# Altium integrated library Analog Devices Switches and Multiplexers Multiplexers (Muxes).IntLib: 481 symbols (part 2 of 23)
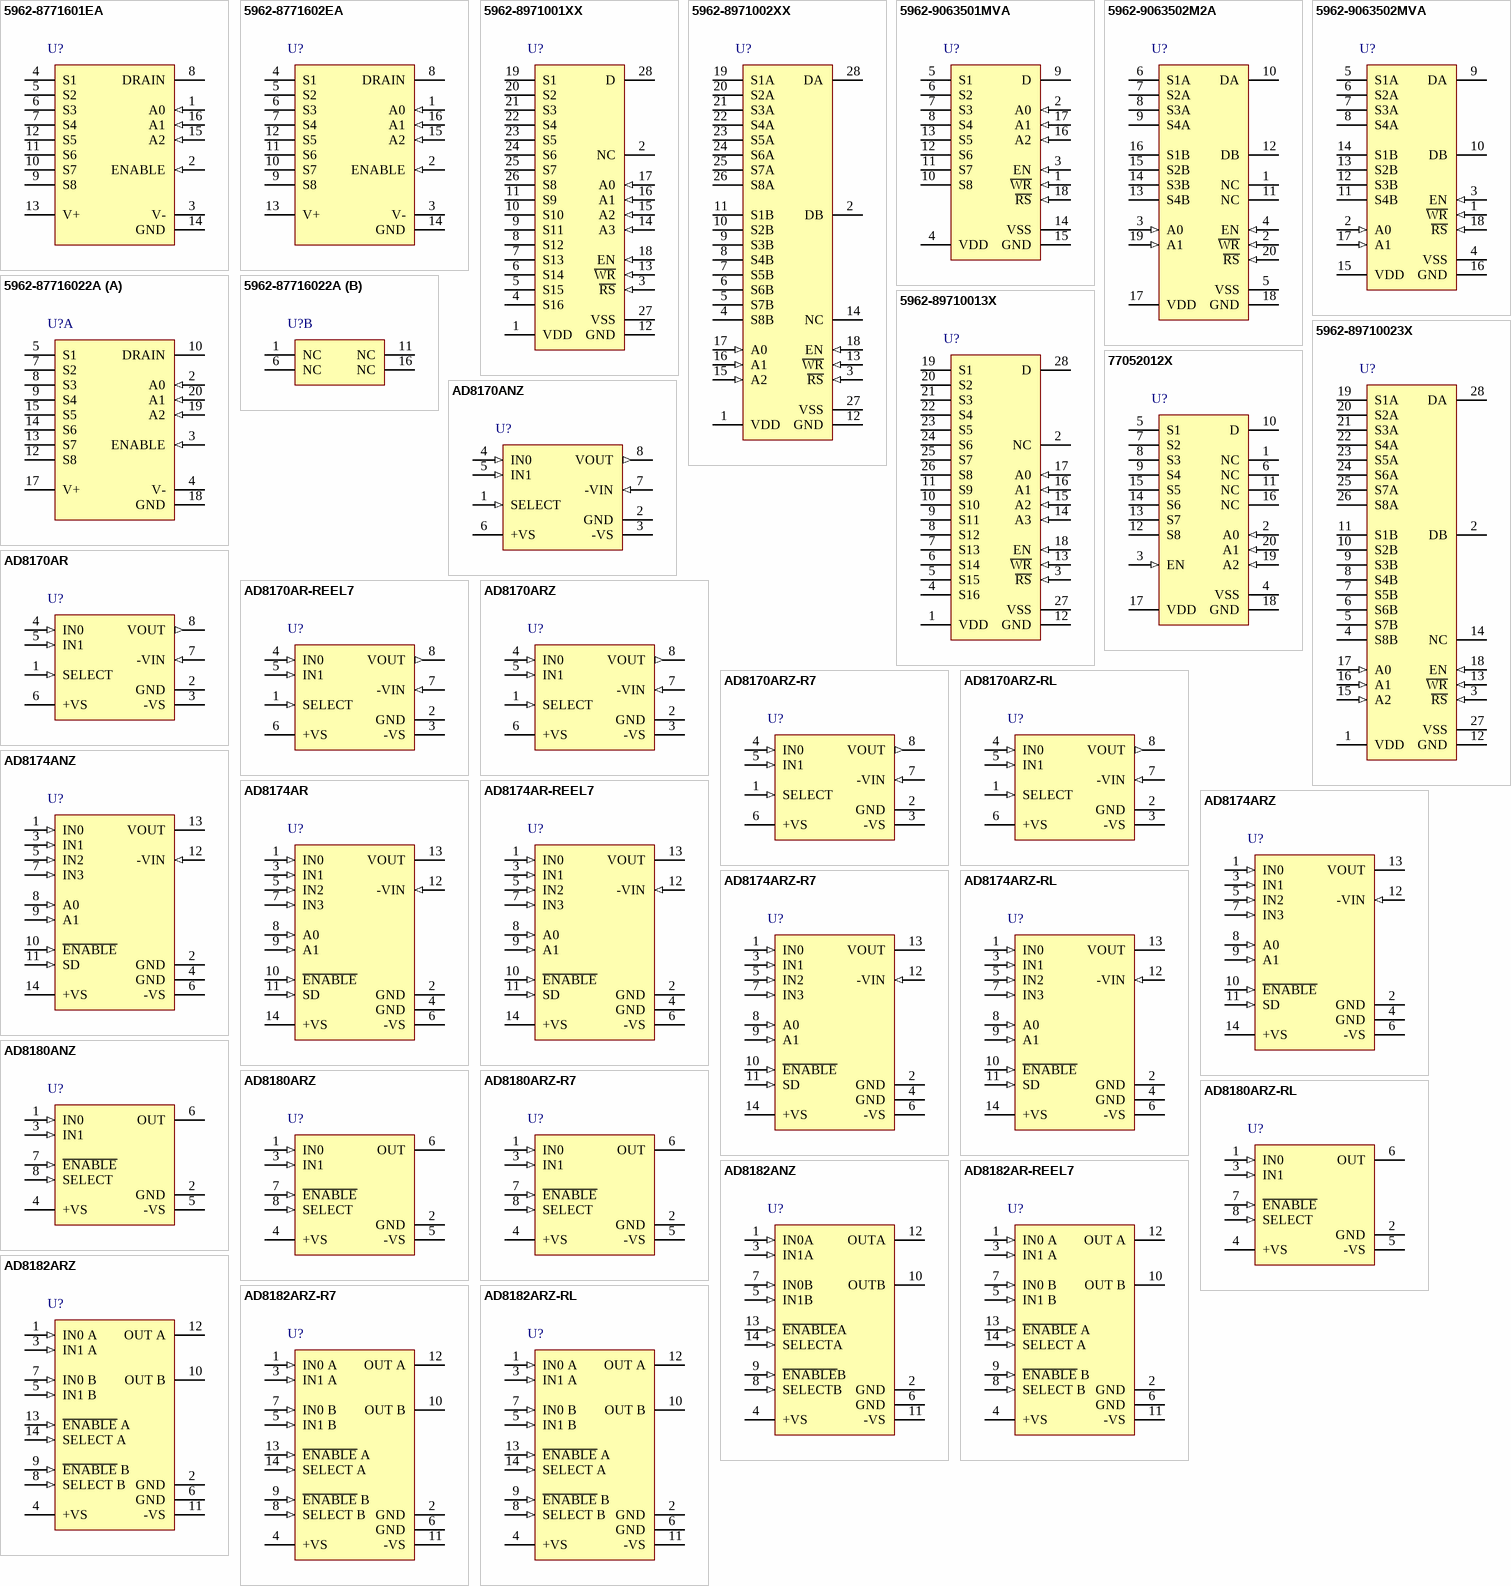
[diagram p18: symbols 5962-8771601EA to AD8182ARZ-RL]

## AD8182ARZ
designator U?
750 MHz, 3.8 mA 10 ns Switching Multiplexers, -40 to 85 degC, 14-pin SOIC (R-14), Tube; Manufacturer: Analog Devices; PartNumber: AD8182ARZ; Bandwidth (Hz): 780M; Max Analog Signal Range: +/-3.3V; Supply V Guar Performance: Dual_(+/-5V); t transition (s): 10n; DatasheetVersion: Rev. B; PackageVersion: 060606-A , 06/2006; PackageReference: R-14; PackageDescription: 14-Pin Standard Small Outline Package, Body 8.65 x 3.9 mm, Pitch 1.27 mm; Supplier 1: Digi-Key; Supplier Part Number 1: AD8182ARZ-ND; Supplier 2: Farnell; Supplier Part Number 2: 2305788; Supplier 3: Newark; Supplier Part Number 3: 84W7469; Supplier 4: Newark; Supplier Part Number 4: 59K6456; Supplier 5: Mouser; Supplier Part Number 5: 584-AD8182ARZ; Packing: Tube; Mounting Technology: Surface Mount; Code_JEDEC: MS-012-AB; ComponentLink1Description: Manufacturer URL; ComponentLink1URL: http://www.analog.com/en/index.html; ComponentLink2Description: Datasheet; ComponentLink2URL: http://www.analog.com/static/imported-files/data_sheets/AD8180_8182.pdf; ComponentLink3Description: Package Specification; ComponentLink3URL: http://www.analog.com/static/imported-files/packages/PKG_PDF/SOIC_Narrow%20(R)/R_14.pdf
footprint ADI-R-14_N (SOIC, 14-Leads, Body 8.65x3.9mm, Pitch 1.27mm, IPC Medium Density)
footprint ADI-R-14_L (SOIC, 14-Leads, Body 8.65x3.9mm, Pitch 1.27mm, IPC High Density)
footprint ADI-R-14_M (SOIC, 14-Leads, Body 8.65x3.9mm, Pitch 1.27mm, IPC Low Density)
pins: 1 IN0 A (in), 2 GND (power), 3 IN1 A (in), 4 +VS (power), 5 IN1 B (in), 6 GND (power), 7 IN0 B (in), 8 SELECT B (in), 9 ~{ENABLE} B (in), 10 OUT B (hiz), 11 -VS (power), 12 OUT A (hiz), 13 ~{ENABLE} A (in), 14 SELECT A (in)

## AD8182ARZ-R7
designator U?
750 MHz, 3.8 mA 10 ns Switching Multiplexers, -40 to 85 degC, 14-pin SOIC (R-14), Reel; Manufacturer: Analog Devices; PartNumber: AD8182ARZ-R7; Bandwidth (Hz): 780M; Max Analog Signal Range: +/-3.3V; Supply V Guar Performance: Dual_(+/-5V); t transition (s): 10n; DatasheetVersion: Rev. B; PackageVersion: 060606-A , 06/2006; PackageReference: R-14; PackageDescription: 14-Pin Standard Small Outline Package, Body 8.65 x 3.9 mm, Pitch 1.27 mm; Supplier 1: Digi-Key; Supplier Part Number 1: AD8182ARZ-R7-ND; Supplier 2: Mouser; Supplier Part Number 2: 584-AD8182ARZ-R7; Packing: Reel; Mounting Technology: Surface Mount; Code_JEDEC: MS-012-AB; ComponentLink1Description: Manufacturer URL; ComponentLink1URL: http://www.analog.com/en/index.html; ComponentLink2Description: Datasheet; ComponentLink2URL: http://www.analog.com/static/imported-files/data_sheets/AD8180_8182.pdf; ComponentLink3Description: Package Specification; ComponentLink3URL: http://www.analog.com/static/imported-files/packages/PKG_PDF/SOIC_Narrow%20(R)/R_14.pdf
footprint ADI-R-14_N (SOIC, 14-Leads, Body 8.65x3.9mm, Pitch 1.27mm, IPC Medium Density)
footprint ADI-R-14_L (SOIC, 14-Leads, Body 8.65x3.9mm, Pitch 1.27mm, IPC High Density)
footprint ADI-R-14_M (SOIC, 14-Leads, Body 8.65x3.9mm, Pitch 1.27mm, IPC Low Density)
pins: 1 IN0 A (in), 2 GND (power), 3 IN1 A (in), 4 +VS (power), 5 IN1 B (in), 6 GND (power), 7 IN0 B (in), 8 SELECT B (in), 9 ~{ENABLE} B (in), 10 OUT B (hiz), 11 -VS (power), 12 OUT A (hiz), 13 ~{ENABLE} A (in), 14 SELECT A (in)

## AD8182ARZ-RL
designator U?
750 MHz, 3.8 mA 10 ns Switching Multiplexers, -40 to 85 degC, 14-pin SOIC (R-14), Reel; Manufacturer: Analog Devices; PartNumber: AD8182ARZ-RL; Bandwidth (Hz): 780M; Max Analog Signal Range: +/-3.3V; Supply V Guar Performance: Dual_(+/-5V); t transition (s): 10n; DatasheetVersion: Rev. B; PackageVersion: 060606-A , 06/2006; PackageReference: R-14; PackageDescription: 14-Pin Standard Small Outline Package, Body 8.65 x 3.9 mm, Pitch 1.27 mm; Supplier 1: Digi-Key; Supplier Part Number 1: AD8182ARZ-RL-ND; Supplier 2: Mouser; Supplier Part Number 2: 584-AD8182ARZ-R; Packing: Reel; Mounting Technology: Surface Mount; Code_JEDEC: MS-012-AB; ComponentLink1Description: Manufacturer URL; ComponentLink1URL: http://www.analog.com/en/index.html; ComponentLink2Description: Datasheet; ComponentLink2URL: http://www.analog.com/static/imported-files/data_sheets/AD8180_8182.pdf; ComponentLink3Description: Package Specification; ComponentLink3URL: http://www.analog.com/static/imported-files/packages/PKG_PDF/SOIC_Narrow%20(R)/R_14.pdf
footprint ADI-R-14_N (SOIC, 14-Leads, Body 8.65x3.9mm, Pitch 1.27mm, IPC Medium Density)
footprint ADI-R-14_L (SOIC, 14-Leads, Body 8.65x3.9mm, Pitch 1.27mm, IPC High Density)
footprint ADI-R-14_M (SOIC, 14-Leads, Body 8.65x3.9mm, Pitch 1.27mm, IPC Low Density)
pins: 1 IN0 A (in), 2 GND (power), 3 IN1 A (in), 4 +VS (power), 5 IN1 B (in), 6 GND (power), 7 IN0 B (in), 8 SELECT B (in), 9 ~{ENABLE} B (in), 10 OUT B (hiz), 11 -VS (power), 12 OUT A (hiz), 13 ~{ENABLE} A (in), 14 SELECT A (in)

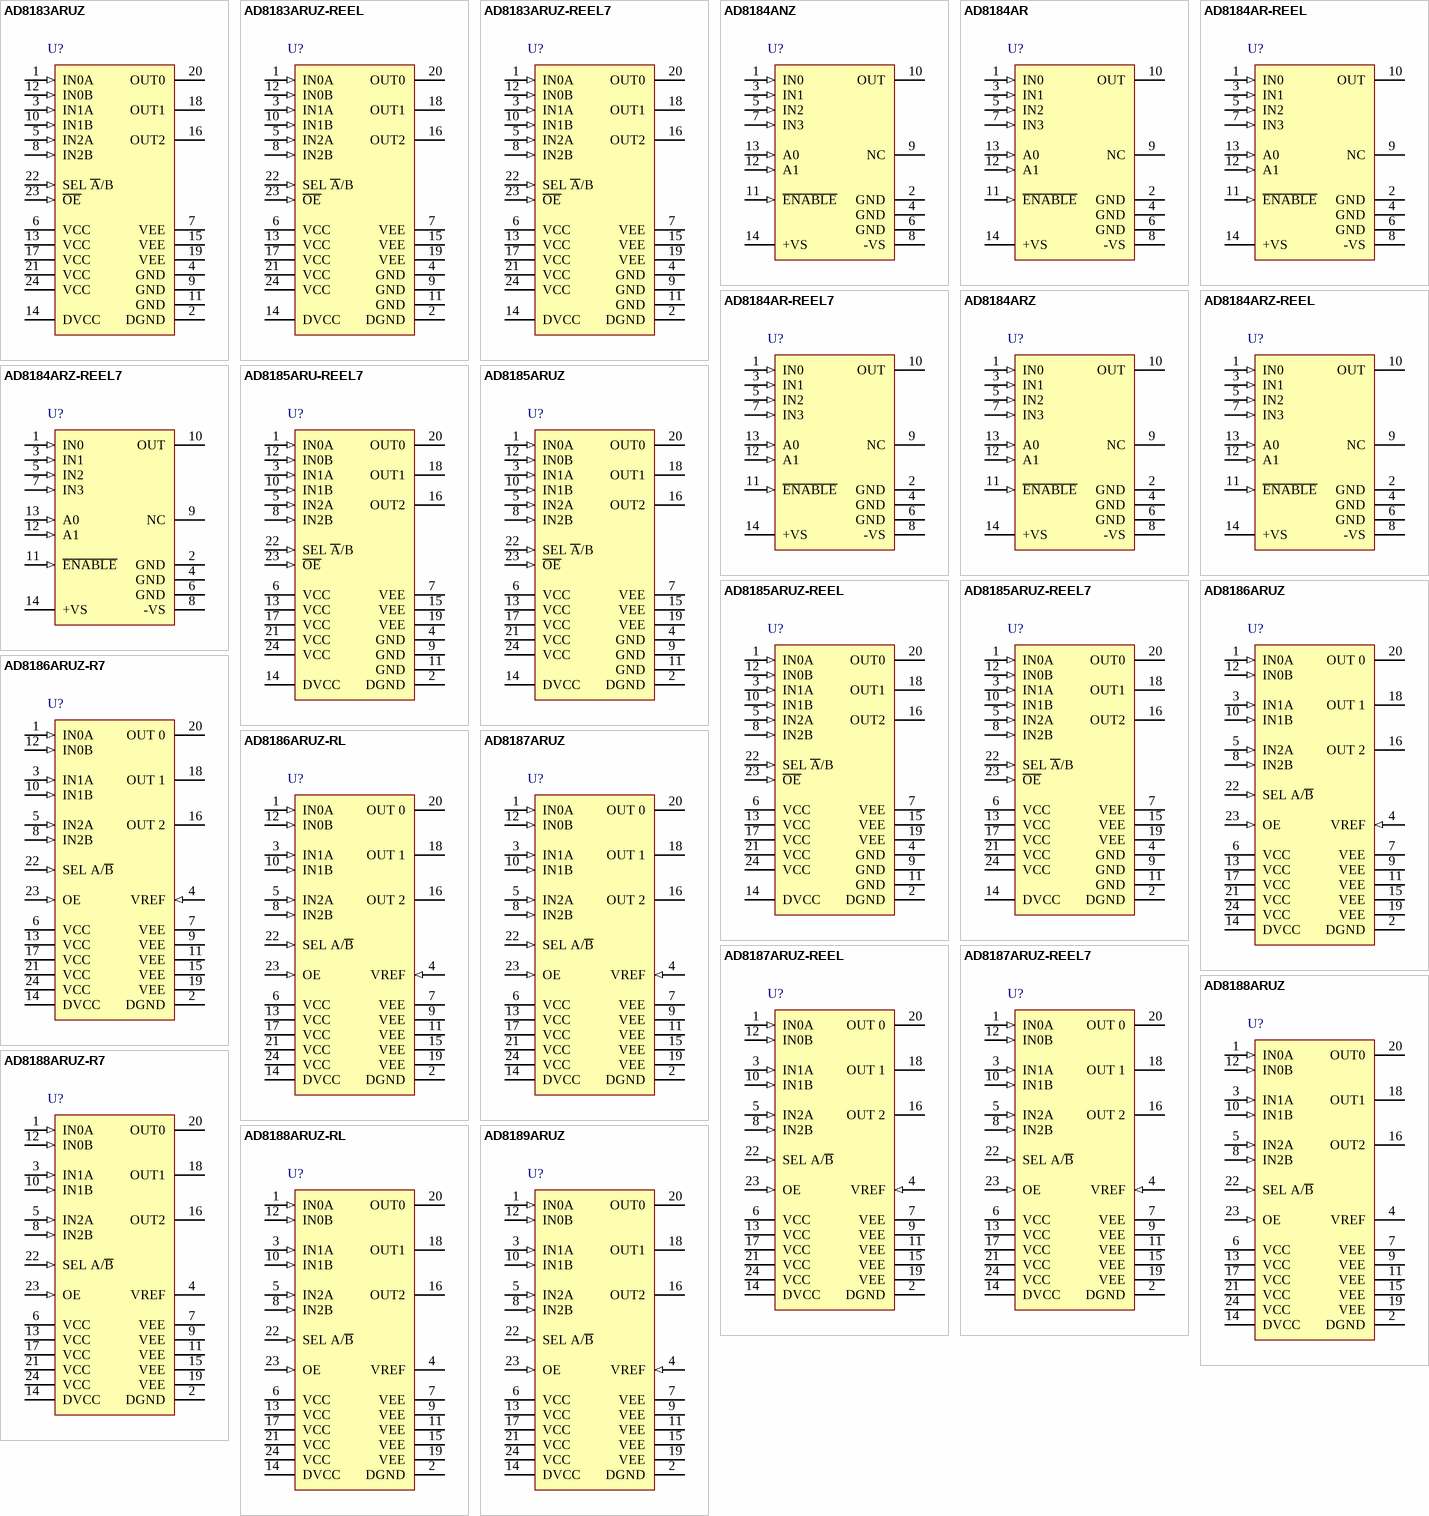
[diagram p1: symbols AD8183ARUZ to AD8189ARUZ]

## AD8183ARUZ
designator U?
380 MHz, 25 mA, Triple 2:1 Multiplexers, 15 ns, -40 to 85 degC, 24-pin SOP (RU-24), Tube; Manufacturer: Analog Devices; PartNumber: AD8183ARUZ; Bandwidth (Hz): 380M; Max Analog Signal Range: +/-3V; Supply V Guar Performance: Dual_(+/-5V); t transition (s): 15n; DatasheetVersion: Rev. 0; PackageVersion: Nov-02; PackageReference: RU-24; PackageDescription: 24-Pin Thin Shrink Small Outline Package, Body 7.8 x 4.4 mm, Pitch 0.65 mm; Supplier 1: Digi-Key; Supplier Part Number 1: AD8183ARUZ-ND; Supplier 2: Farnell; Supplier Part Number 2: 9426051; Supplier 3: Newark; Supplier Part Number 3: 31M4492; Supplier 4: Mouser; Supplier Part Number 4: 584-AD8183ARUZ; Packing: Tube; Mounting Technology: Surface Mount; Code_JEDEC: MO-153AD; ComponentLink1Description: Manufacturer URL; ComponentLink1URL: http://www.analog.com/en/index.html; ComponentLink2Description: Datasheet; ComponentLink2URL: http://www.analog.com/static/imported-files/data_sheets/AD8183_8185.pdf; ComponentLink3Description: Package Specification; ComponentLink3URL: http://www.analog.com/static/imported-files/packages/380523655245964505593671154107510036154RU24.pdf
footprint ADI-RU-24_N (SOP, 24-Leads, Body 7.8x4.4mm, Pitch 0.65mm, IPC Medium Density)
footprint ADI-RU-24_L (SOP, 24-Leads, Body 7.8x4.4mm, Pitch 0.65mm, IPC High Density)
footprint ADI-RU-24_M (SOP, 24-Leads, Body 7.8x4.4mm, Pitch 0.65mm, IPC Low Density)
pins: 1 IN0A (in), 2 DGND (power), 3 IN1A (in), 4 GND (power), 5 IN2A (in), 6 VCC (power), 7 VEE (power), 8 IN2B (in), 9 GND (power), 10 IN1B (in), 11 GND (power), 12 IN0B (in), 13 VCC (power), 14 DVCC (power), 15 VEE (power), 16 OUT2 (hiz), 17 VCC (power), 18 OUT1 (hiz), 19 VEE (power), 20 OUT0 (hiz), 21 VCC (power), 22 SEL ~{A}/B (in), 23 ~{OE} (in), 24 VCC (power)

## AD8183ARUZ-REEL
designator U?
380 MHz, 25 mA, Triple 2:1 Multiplexers, 15 ns, -40 to 85 degC, 24-pin SOP (RU-24), Reel; Manufacturer: Analog Devices; PartNumber: AD8183ARUZ-REEL; Bandwidth (Hz): 380M; Max Analog Signal Range: +/-3V; Supply V Guar Performance: Dual_(+/-5V); t transition (s): 15n; DatasheetVersion: Rev. 0; PackageVersion: Nov-02; PackageReference: RU-24; PackageDescription: 24-Pin Thin Shrink Small Outline Package, Body 7.8 x 4.4 mm, Pitch 0.65 mm; Supplier 1: Digi-Key; Supplier Part Number 1: AD8183ARUZ-REEL-ND; Supplier 2: Mouser; Supplier Part Number 2: 584-AD8183ARUZ-R; Packing: Reel; Mounting Technology: Surface Mount; Code_JEDEC: MO-153AD; ComponentLink1Description: Manufacturer URL; ComponentLink1URL: http://www.analog.com/en/index.html; ComponentLink2Description: Datasheet; ComponentLink2URL: http://www.analog.com/static/imported-files/data_sheets/AD8183_8185.pdf; ComponentLink3Description: Package Specification; ComponentLink3URL: http://www.analog.com/static/imported-files/packages/380523655245964505593671154107510036154RU24.pdf
footprint ADI-RU-24_N (SOP, 24-Leads, Body 7.8x4.4mm, Pitch 0.65mm, IPC Medium Density)
footprint ADI-RU-24_L (SOP, 24-Leads, Body 7.8x4.4mm, Pitch 0.65mm, IPC High Density)
footprint ADI-RU-24_M (SOP, 24-Leads, Body 7.8x4.4mm, Pitch 0.65mm, IPC Low Density)
pins: 1 IN0A (in), 2 DGND (power), 3 IN1A (in), 4 GND (power), 5 IN2A (in), 6 VCC (power), 7 VEE (power), 8 IN2B (in), 9 GND (power), 10 IN1B (in), 11 GND (power), 12 IN0B (in), 13 VCC (power), 14 DVCC (power), 15 VEE (power), 16 OUT2 (hiz), 17 VCC (power), 18 OUT1 (hiz), 19 VEE (power), 20 OUT0 (hiz), 21 VCC (power), 22 SEL ~{A}/B (in), 23 ~{OE} (in), 24 VCC (power)

## AD8183ARUZ-REEL7
designator U?
380 MHz, 25 mA, Triple 2:1 Multiplexers, 15 ns, -40 to 85 degC, 24-pin SOP (RU-24), Reel; Manufacturer: Analog Devices; PartNumber: AD8183ARUZ-REEL7; Bandwidth (Hz): 380M; Max Analog Signal Range: +/-3V; Supply V Guar Performance: Dual_(+/-5V); t transition (s): 15n; DatasheetVersion: Rev. 0; PackageVersion: Nov-02; PackageReference: RU-24; PackageDescription: 24-Pin Thin Shrink Small Outline Package, Body 7.8 x 4.4 mm, Pitch 0.65 mm; Supplier 1: Digi-Key; Supplier Part Number 1: AD8183ARUZ-REEL7-ND; Supplier 2: Newark; Supplier Part Number 2: 88H0189; Supplier 3: Mouser; Supplier Part Number 3: 584-AD8183ARUZ-R7; Packing: Reel; Mounting Technology: Surface Mount; Code_JEDEC: MO-153AD; ComponentLink1Description: Manufacturer URL; ComponentLink1URL: http://www.analog.com/en/index.html; ComponentLink2Description: Datasheet; ComponentLink2URL: http://www.analog.com/static/imported-files/data_sheets/AD8183_8185.pdf; ComponentLink3Description: Package Specification; ComponentLink3URL: http://www.analog.com/static/imported-files/packages/380523655245964505593671154107510036154RU24.pdf
footprint ADI-RU-24_N (SOP, 24-Leads, Body 7.8x4.4mm, Pitch 0.65mm, IPC Medium Density)
footprint ADI-RU-24_L (SOP, 24-Leads, Body 7.8x4.4mm, Pitch 0.65mm, IPC High Density)
footprint ADI-RU-24_M (SOP, 24-Leads, Body 7.8x4.4mm, Pitch 0.65mm, IPC Low Density)
pins: 1 IN0A (in), 2 DGND (power), 3 IN1A (in), 4 GND (power), 5 IN2A (in), 6 VCC (power), 7 VEE (power), 8 IN2B (in), 9 GND (power), 10 IN1B (in), 11 GND (power), 12 IN0B (in), 13 VCC (power), 14 DVCC (power), 15 VEE (power), 16 OUT2 (hiz), 17 VCC (power), 18 OUT1 (hiz), 19 VEE (power), 20 OUT0 (hiz), 21 VCC (power), 22 SEL ~{A}/B (in), 23 ~{OE} (in), 24 VCC (power)

## AD8184ANZ
designator U?
700 MHz, 5 mA, 4- to -1 Video Multiplexer, 10 ns, -40 to 85 degC, 14-pin DIP (N-14), Tube; Manufacturer: Analog Devices; PartNumber: AD8184ANZ; Bandwidth (Hz): 700M; Max Analog Signal Range: +/-3.3V; Supply V Guar Performance: Dual_(+/-5V); t transition (s): 10n; DatasheetVersion: Rev. 0; PackageVersion: 070606-A, 07/2006; PackageReference: N-14; PackageDescription: 14-Pin Plastic Dual In-Line Package, Row spacing 7.62 mm, Pitch 2.54 mm; Supplier 1: Digi-Key; Supplier Part Number 1: AD8184ANZ-ND; Supplier 2: Newark; Supplier Part Number 2: 59K6459; Supplier 3: Mouser; Supplier Part Number 3: 584-AD8184ANZ; Packing: Tube; Mounting Technology: Through Hole; Code_JEDEC: MS-001; ComponentLink1Description: Manufacturer URL; ComponentLink1URL: http://www.analog.com/en/index.html; ComponentLink2Description: Datasheet; ComponentLink2URL: http://www.analog.com/static/imported-files/data_sheets/AD8184.pdf; ComponentLink3Description: Package Specification; ComponentLink3URL: http://www.analog.com/static/imported-files/packages/N_14.pdf
footprint ADI-N-14 (DIP, 14-Leads, Body 19.18x6.605mm, Pitch 2.54mm)
pins: 1 IN0 (in), 2 GND (power), 3 IN1 (in), 4 GND (power), 5 IN2 (in), 6 GND (power), 7 IN3 (in), 8 -VS (power), 9 NC, 10 OUT (hiz), 11 ~{ENABLE} (in), 12 A1 (in), 13 A0 (in), 14 +VS (power)

## AD8184AR
designator U?
700 MHz, 5 mA, 4- to -1 Video Multiplexer, 10 ns, -40 to 85 degC, 14-pin SOIC (R-14), Tube; Manufacturer: Analog Devices; PartNumber: AD8184AR; Bandwidth (Hz): 700M; Max Analog Signal Range: +/-3.3V; Supply V Guar Performance: Dual_(+/-5V); t transition (s): 10n; DatasheetVersion: Rev. 0; PackageVersion: 060606-A , 06/2006; PackageReference: R-14; PackageDescription: 14-Pin Standard Small Outline Package, Body 8.65 x 3.9 mm, Pitch 1.27 mm; Supplier 1: Digi-Key; Supplier Part Number 1: AD8184AR-ND; Supplier 2: Mouser; Supplier Part Number 2: 584-AD8184AR; Packing: Tube; Mounting Technology: Surface Mount; Code_JEDEC: MS-012-AB; ComponentLink1Description: Manufacturer URL; ComponentLink1URL: http://www.analog.com/en/index.html; ComponentLink2Description: Datasheet; ComponentLink2URL: http://www.analog.com/static/imported-files/data_sheets/AD8184.pdf; ComponentLink3Description: Package Specification; ComponentLink3URL: http://www.analog.com/static/imported-files/packages/PKG_PDF/SOIC_Narrow%20(R)/R_14.pdf
footprint ADI-R-14_N (SOIC, 14-Leads, Body 8.65x3.9mm, Pitch 1.27mm, IPC Medium Density)
footprint ADI-R-14_L (SOIC, 14-Leads, Body 8.65x3.9mm, Pitch 1.27mm, IPC High Density)
footprint ADI-R-14_M (SOIC, 14-Leads, Body 8.65x3.9mm, Pitch 1.27mm, IPC Low Density)
pins: 1 IN0 (in), 2 GND (power), 3 IN1 (in), 4 GND (power), 5 IN2 (in), 6 GND (power), 7 IN3 (in), 8 -VS (power), 9 NC, 10 OUT (hiz), 11 ~{ENABLE} (in), 12 A1 (in), 13 A0 (in), 14 +VS (power)

## AD8184AR-REEL
designator U?
700 MHz, 5 mA, 4- to -1 Video Multiplexer, 10 ns, -40 to 85 degC, 14-pin SOIC (R-14), Reel; Manufacturer: Analog Devices; PartNumber: AD8184AR-REEL; Bandwidth (Hz): 700M; Max Analog Signal Range: +/-3.3V; Supply V Guar Performance: Dual_(+/-5V); t transition (s): 10n; DatasheetVersion: Rev. 0; PackageVersion: 060606-A , 06/2006; PackageReference: R-14; PackageDescription: 14-Pin Standard Small Outline Package, Body 8.65 x 3.9 mm, Pitch 1.27 mm; Supplier 1: Digi-Key; Supplier Part Number 1: AD8184AR-REEL-ND; Supplier 2: Newark; Supplier Part Number 2: 09B6492; Supplier 3: Mouser; Supplier Part Number 3: 584-AD8184AR-R; Packing: Reel; Mounting Technology: Surface Mount; Code_JEDEC: MS-012-AB; ComponentLink1Description: Manufacturer URL; ComponentLink1URL: http://www.analog.com/en/index.html; ComponentLink2Description: Datasheet; ComponentLink2URL: http://www.analog.com/static/imported-files/data_sheets/AD8184.pdf; ComponentLink3Description: Package Specification; ComponentLink3URL: http://www.analog.com/static/imported-files/packages/PKG_PDF/SOIC_Narrow%20(R)/R_14.pdf
footprint ADI-R-14_N (SOIC, 14-Leads, Body 8.65x3.9mm, Pitch 1.27mm, IPC Medium Density)
footprint ADI-R-14_L (SOIC, 14-Leads, Body 8.65x3.9mm, Pitch 1.27mm, IPC High Density)
footprint ADI-R-14_M (SOIC, 14-Leads, Body 8.65x3.9mm, Pitch 1.27mm, IPC Low Density)
pins: 1 IN0 (in), 2 GND (power), 3 IN1 (in), 4 GND (power), 5 IN2 (in), 6 GND (power), 7 IN3 (in), 8 -VS (power), 9 NC, 10 OUT (hiz), 11 ~{ENABLE} (in), 12 A1 (in), 13 A0 (in), 14 +VS (power)

## AD8184AR-REEL7
designator U?
700 MHz, 5 mA, 4- to -1 Video Multiplexer, 10 ns, -40 to 85 degC, 14-pin SOIC (R-14), Reel; Manufacturer: Analog Devices; PartNumber: AD8184AR-REEL7; Bandwidth (Hz): 700M; Max Analog Signal Range: +/-3.3V; Supply V Guar Performance: Dual_(+/-5V); t transition (s): 10n; DatasheetVersion: Rev. 0; PackageVersion: 060606-A , 06/2006; PackageReference: R-14; PackageDescription: 14-Pin Standard Small Outline Package, Body 8.65 x 3.9 mm, Pitch 1.27 mm; Supplier 1: Digi-Key; Supplier Part Number 1: AD8184AR-REEL7TR-ND; Supplier 2: Digi-Key; Supplier Part Number 2: AD8184AR-REEL7CT-ND; Supplier 3: Digi-Key; Supplier Part Number 3: AD8184AR-REEL7DKR-ND; Supplier 4: Mouser; Supplier Part Number 4: 584-AD8184AR-R7; Packing: Reel; Mounting Technology: Surface Mount; Code_JEDEC: MS-012-AB; ComponentLink1Description: Manufacturer URL; ComponentLink1URL: http://www.analog.com/en/index.html; ComponentLink2Description: Datasheet; ComponentLink2URL: http://www.analog.com/static/imported-files/data_sheets/AD8184.pdf; ComponentLink3Description: Package Specification; ComponentLink3URL: http://www.analog.com/static/imported-files/packages/PKG_PDF/SOIC_Narrow%20(R)/R_14.pdf
footprint ADI-R-14_N (SOIC, 14-Leads, Body 8.65x3.9mm, Pitch 1.27mm, IPC Medium Density)
footprint ADI-R-14_L (SOIC, 14-Leads, Body 8.65x3.9mm, Pitch 1.27mm, IPC High Density)
footprint ADI-R-14_M (SOIC, 14-Leads, Body 8.65x3.9mm, Pitch 1.27mm, IPC Low Density)
pins: 1 IN0 (in), 2 GND (power), 3 IN1 (in), 4 GND (power), 5 IN2 (in), 6 GND (power), 7 IN3 (in), 8 -VS (power), 9 NC, 10 OUT (hiz), 11 ~{ENABLE} (in), 12 A1 (in), 13 A0 (in), 14 +VS (power)

## AD8184ARZ
designator U?
700 MHz, 5 mA, 4- to -1 Video Multiplexer, 10 ns, -40 to 85 degC, 14-pin SOIC (R-14), Tube; Manufacturer: Analog Devices; PartNumber: AD8184ARZ; Bandwidth (Hz): 700M; Max Analog Signal Range: +/-3.3V; Supply V Guar Performance: Dual_(+/-5V); t transition (s): 10n; DatasheetVersion: Rev. 0; PackageVersion: 060606-A , 06/2006; PackageReference: R-14; PackageDescription: 14-Pin Standard Small Outline Package, Body 8.65 x 3.9 mm, Pitch 1.27 mm; Supplier 1: Digi-Key; Supplier Part Number 1: AD8184ARZ-ND; Supplier 2: Farnell; Supplier Part Number 2: 1661014; Supplier 3: Newark; Supplier Part Number 3: 19M8887; Supplier 4: Mouser; Supplier Part Number 4: 584-AD8184ARZ; Packing: Tube; Mounting Technology: Surface Mount; Code_JEDEC: MS-012-AB; ComponentLink1Description: Manufacturer URL; ComponentLink1URL: http://www.analog.com/en/index.html; ComponentLink2Description: Datasheet; ComponentLink2URL: http://www.analog.com/static/imported-files/data_sheets/AD8184.pdf; ComponentLink3Description: Package Specification; ComponentLink3URL: http://www.analog.com/static/imported-files/packages/PKG_PDF/SOIC_Narrow%20(R)/R_14.pdf
footprint ADI-R-14_N (SOIC, 14-Leads, Body 8.65x3.9mm, Pitch 1.27mm, IPC Medium Density)
footprint ADI-R-14_L (SOIC, 14-Leads, Body 8.65x3.9mm, Pitch 1.27mm, IPC High Density)
footprint ADI-R-14_M (SOIC, 14-Leads, Body 8.65x3.9mm, Pitch 1.27mm, IPC Low Density)
pins: 1 IN0 (in), 2 GND (power), 3 IN1 (in), 4 GND (power), 5 IN2 (in), 6 GND (power), 7 IN3 (in), 8 -VS (power), 9 NC, 10 OUT (hiz), 11 ~{ENABLE} (in), 12 A1 (in), 13 A0 (in), 14 +VS (power)

## AD8184ARZ-REEL
designator U?
700 MHz, 5 mA, 4- to -1 Video Multiplexer, 10 ns, -40 to 85 degC, 14-pin SOIC (R-14), Reel; Manufacturer: Analog Devices; PartNumber: AD8184ARZ-REEL; Bandwidth (Hz): 700M; Max Analog Signal Range: +/-3.3V; Supply V Guar Performance: Dual_(+/-5V); t transition (s): 10n; DatasheetVersion: Rev. 0; PackageVersion: 060606-A , 06/2006; PackageReference: R-14; PackageDescription: 14-Pin Standard Small Outline Package, Body 8.65 x 3.9 mm, Pitch 1.27 mm; Supplier 1: Digi-Key; Supplier Part Number 1: AD8184ARZ-REEL-ND; Supplier 2: Newark; Supplier Part Number 2: 88H0191; Supplier 3: Mouser; Supplier Part Number 3: 584-AD8184ARZ-R; Packing: Reel; Mounting Technology: Surface Mount; Code_JEDEC: MS-012-AB; ComponentLink1Description: Manufacturer URL; ComponentLink1URL: http://www.analog.com/en/index.html; ComponentLink2Description: Datasheet; ComponentLink2URL: http://www.analog.com/static/imported-files/data_sheets/AD8184.pdf; ComponentLink3Description: Package Specification; ComponentLink3URL: http://www.analog.com/static/imported-files/packages/PKG_PDF/SOIC_Narrow%20(R)/R_14.pdf
footprint ADI-R-14_N (SOIC, 14-Leads, Body 8.65x3.9mm, Pitch 1.27mm, IPC Medium Density)
footprint ADI-R-14_L (SOIC, 14-Leads, Body 8.65x3.9mm, Pitch 1.27mm, IPC High Density)
footprint ADI-R-14_M (SOIC, 14-Leads, Body 8.65x3.9mm, Pitch 1.27mm, IPC Low Density)
pins: 1 IN0 (in), 2 GND (power), 3 IN1 (in), 4 GND (power), 5 IN2 (in), 6 GND (power), 7 IN3 (in), 8 -VS (power), 9 NC, 10 OUT (hiz), 11 ~{ENABLE} (in), 12 A1 (in), 13 A0 (in), 14 +VS (power)

## AD8184ARZ-REEL7
designator U?
700 MHz, 5 mA, 4- to -1 Video Multiplexer, 10 ns, -40 to 85 degC, 14-pin SOIC (R-14), Reel; Manufacturer: Analog Devices; PartNumber: AD8184ARZ-REEL7; Bandwidth (Hz): 700M; Max Analog Signal Range: +/-3.3V; Supply V Guar Performance: Dual_(+/-5V); t transition (s): 10n; DatasheetVersion: Rev. 0; PackageVersion: 060606-A , 06/2006; PackageReference: R-14; PackageDescription: 14-Pin Standard Small Outline Package, Body 8.65 x 3.9 mm, Pitch 1.27 mm; Supplier 1: Digi-Key; Supplier Part Number 1: AD8184ARZ-REEL7-ND; Supplier 2: Mouser; Supplier Part Number 2: 584-AD8184ARZ-R7; Packing: Reel; Mounting Technology: Surface Mount; Code_JEDEC: MS-012-AB; ComponentLink1Description: Manufacturer URL; ComponentLink1URL: http://www.analog.com/en/index.html; ComponentLink2Description: Datasheet; ComponentLink2URL: http://www.analog.com/static/imported-files/data_sheets/AD8184.pdf; ComponentLink3Description: Package Specification; ComponentLink3URL: http://www.analog.com/static/imported-files/packages/PKG_PDF/SOIC_Narrow%20(R)/R_14.pdf
footprint ADI-R-14_N (SOIC, 14-Leads, Body 8.65x3.9mm, Pitch 1.27mm, IPC Medium Density)
footprint ADI-R-14_L (SOIC, 14-Leads, Body 8.65x3.9mm, Pitch 1.27mm, IPC High Density)
footprint ADI-R-14_M (SOIC, 14-Leads, Body 8.65x3.9mm, Pitch 1.27mm, IPC Low Density)
pins: 1 IN0 (in), 2 GND (power), 3 IN1 (in), 4 GND (power), 5 IN2 (in), 6 GND (power), 7 IN3 (in), 8 -VS (power), 9 NC, 10 OUT (hiz), 11 ~{ENABLE} (in), 12 A1 (in), 13 A0 (in), 14 +VS (power)

## AD8185ARU-REEL7
designator U?
320 MHz, 25 mA, Triple 2:1 Multiplexers, 15 ns, -40 to 85 degC, 24-pin SOP (RU-24), Reel; Manufacturer: Analog Devices; PartNumber: AD8185ARU-REEL7; Bandwidth (Hz): 320M; Max Analog Signal Range: +/-1.5V; Supply V Guar Performance: Dual_(+/-5V); t transition (s): 15n; DatasheetVersion: Rev. 0; PackageVersion: Nov-02; PackageReference: RU-24; PackageDescription: 24-Pin Thin Shrink Small Outline Package, Body 7.8 x 4.4 mm, Pitch 0.65 mm; Supplier 1: Digi-Key; Supplier Part Number 1: AD8185ARU-REEL7TR-ND; Supplier 2: Digi-Key; Supplier Part Number 2: AD8185ARU-REEL7CT-ND; Supplier 3: Digi-Key; Supplier Part Number 3: AD8185ARU-REEL7DKR-ND; Supplier 4: Newark; Supplier Part Number 4: 98B7397; Supplier 5: Mouser; Supplier Part Number 5: 584-AD8185ARU-R7; Packing: Reel; Mounting Technology: Surface Mount; Code_JEDEC: MO-153AD; ComponentLink1Description: Manufacturer URL; ComponentLink1URL: http://www.analog.com/en/index.html; ComponentLink2Description: Datasheet; ComponentLink2URL: http://www.analog.com/static/imported-files/data_sheets/AD8183_8185.pdf; ComponentLink3Description: Package Specification; ComponentLink3URL: http://www.analog.com/static/imported-files/packages/380523655245964505593671154107510036154RU24.pdf
footprint ADI-RU-24_N (SOP, 24-Leads, Body 7.8x4.4mm, Pitch 0.65mm, IPC Medium Density)
footprint ADI-RU-24_L (SOP, 24-Leads, Body 7.8x4.4mm, Pitch 0.65mm, IPC High Density)
footprint ADI-RU-24_M (SOP, 24-Leads, Body 7.8x4.4mm, Pitch 0.65mm, IPC Low Density)
pins: 1 IN0A (in), 2 DGND (power), 3 IN1A (in), 4 GND (power), 5 IN2A (in), 6 VCC (power), 7 VEE (power), 8 IN2B (in), 9 GND (power), 10 IN1B (in), 11 GND (power), 12 IN0B (in), 13 VCC (power), 14 DVCC (power), 15 VEE (power), 16 OUT2 (hiz), 17 VCC (power), 18 OUT1 (hiz), 19 VEE (power), 20 OUT0 (hiz), 21 VCC (power), 22 SEL ~{A}/B (in), 23 ~{OE} (in), 24 VCC (power)

## AD8185ARUZ
designator U?
320 MHz, 25 mA, Triple 2:1 Multiplexers, 15 ns, -40 to 85 degC, 24-pin SOP (RU-24), Tube; Manufacturer: Analog Devices; PartNumber: AD8185ARUZ; Bandwidth (Hz): 320M; Max Analog Signal Range: +/-1.5V; Supply V Guar Performance: Dual_(+/-5V); t transition (s): 15n; DatasheetVersion: Rev. 0; PackageVersion: Nov-02; PackageReference: RU-24; PackageDescription: 24-Pin Thin Shrink Small Outline Package, Body 7.8 x 4.4 mm, Pitch 0.65 mm; Supplier 1: Digi-Key; Supplier Part Number 1: AD8185ARUZ-ND; Supplier 2: Farnell; Supplier Part Number 2: 9426060; Supplier 3: Newark; Supplier Part Number 3: 88H0193; Supplier 4: Mouser; Supplier Part Number 4: 584-AD8185ARUZ; Packing: Tube; Mounting Technology: Surface Mount; Code_JEDEC: MO-153AD; ComponentLink1Description: Manufacturer URL; ComponentLink1URL: http://www.analog.com/en/index.html; ComponentLink2Description: Datasheet; ComponentLink2URL: http://www.analog.com/static/imported-files/data_sheets/AD8183_8185.pdf; ComponentLink3Description: Package Specification; ComponentLink3URL: http://www.analog.com/static/imported-files/packages/380523655245964505593671154107510036154RU24.pdf
footprint ADI-RU-24_N (SOP, 24-Leads, Body 7.8x4.4mm, Pitch 0.65mm, IPC Medium Density)
footprint ADI-RU-24_L (SOP, 24-Leads, Body 7.8x4.4mm, Pitch 0.65mm, IPC High Density)
footprint ADI-RU-24_M (SOP, 24-Leads, Body 7.8x4.4mm, Pitch 0.65mm, IPC Low Density)
pins: 1 IN0A (in), 2 DGND (power), 3 IN1A (in), 4 GND (power), 5 IN2A (in), 6 VCC (power), 7 VEE (power), 8 IN2B (in), 9 GND (power), 10 IN1B (in), 11 GND (power), 12 IN0B (in), 13 VCC (power), 14 DVCC (power), 15 VEE (power), 16 OUT2 (hiz), 17 VCC (power), 18 OUT1 (hiz), 19 VEE (power), 20 OUT0 (hiz), 21 VCC (power), 22 SEL ~{A}/B (in), 23 ~{OE} (in), 24 VCC (power)

## AD8185ARUZ-REEL
designator U?
320 MHz, 25 mA, Triple 2:1 Multiplexers, 15 ns, -40 to 85 degC, 24-pin SOP (RU-24), Reel; Manufacturer: Analog Devices; PartNumber: AD8185ARUZ-REEL; Bandwidth (Hz): 320M; Max Analog Signal Range: +/-1.5V; Supply V Guar Performance: Dual_(+/-5V); t transition (s): 15n; DatasheetVersion: Rev. 0; PackageVersion: Nov-02; PackageReference: RU-24; PackageDescription: 24-Pin Thin Shrink Small Outline Package, Body 7.8 x 4.4 mm, Pitch 0.65 mm; Supplier 1: Digi-Key; Supplier Part Number 1: AD8185ARUZ-REEL-ND; Supplier 2: Mouser; Supplier Part Number 2: 584-AD8185ARUZ-R; Packing: Reel; Mounting Technology: Surface Mount; Code_JEDEC: MO-153AD; ComponentLink1Description: Manufacturer URL; ComponentLink1URL: http://www.analog.com/en/index.html; ComponentLink2Description: Datasheet; ComponentLink2URL: http://www.analog.com/static/imported-files/data_sheets/AD8183_8185.pdf; ComponentLink3Description: Package Specification; ComponentLink3URL: http://www.analog.com/static/imported-files/packages/380523655245964505593671154107510036154RU24.pdf
footprint ADI-RU-24_N (SOP, 24-Leads, Body 7.8x4.4mm, Pitch 0.65mm, IPC Medium Density)
footprint ADI-RU-24_L (SOP, 24-Leads, Body 7.8x4.4mm, Pitch 0.65mm, IPC High Density)
footprint ADI-RU-24_M (SOP, 24-Leads, Body 7.8x4.4mm, Pitch 0.65mm, IPC Low Density)
pins: 1 IN0A (in), 2 DGND (power), 3 IN1A (in), 4 GND (power), 5 IN2A (in), 6 VCC (power), 7 VEE (power), 8 IN2B (in), 9 GND (power), 10 IN1B (in), 11 GND (power), 12 IN0B (in), 13 VCC (power), 14 DVCC (power), 15 VEE (power), 16 OUT2 (hiz), 17 VCC (power), 18 OUT1 (hiz), 19 VEE (power), 20 OUT0 (hiz), 21 VCC (power), 22 SEL ~{A}/B (in), 23 ~{OE} (in), 24 VCC (power)

## AD8185ARUZ-REEL7
designator U?
320 MHz, 25 mA, Triple 2:1 Multiplexers, 15 ns, -40 to 85 degC, 24-pin SOP (RU-24), Reel; Manufacturer: Analog Devices; PartNumber: AD8185ARUZ-REEL7; Bandwidth (Hz): 320M; Max Analog Signal Range: +/-1.5V; Supply V Guar Performance: Dual_(+/-5V); t transition (s): 15n; DatasheetVersion: Rev. 0; PackageVersion: Nov-02; PackageReference: RU-24; PackageDescription: 24-Pin Thin Shrink Small Outline Package, Body 7.8 x 4.4 mm, Pitch 0.65 mm; Supplier 1: Digi-Key; Supplier Part Number 1: AD8185ARUZ-REEL7-ND; Supplier 2: Mouser; Supplier Part Number 2: 584-AD8185ARUZ-R7; Packing: Reel; Mounting Technology: Surface Mount; Code_JEDEC: MO-153AD; ComponentLink1Description: Manufacturer URL; ComponentLink1URL: http://www.analog.com/en/index.html; ComponentLink2Description: Datasheet; ComponentLink2URL: http://www.analog.com/static/imported-files/data_sheets/AD8183_8185.pdf; ComponentLink3Description: Package Specification; ComponentLink3URL: http://www.analog.com/static/imported-files/packages/380523655245964505593671154107510036154RU24.pdf
footprint ADI-RU-24_N (SOP, 24-Leads, Body 7.8x4.4mm, Pitch 0.65mm, IPC Medium Density)
footprint ADI-RU-24_L (SOP, 24-Leads, Body 7.8x4.4mm, Pitch 0.65mm, IPC High Density)
footprint ADI-RU-24_M (SOP, 24-Leads, Body 7.8x4.4mm, Pitch 0.65mm, IPC Low Density)
pins: 1 IN0A (in), 2 DGND (power), 3 IN1A (in), 4 GND (power), 5 IN2A (in), 6 VCC (power), 7 VEE (power), 8 IN2B (in), 9 GND (power), 10 IN1B (in), 11 GND (power), 12 IN0B (in), 13 VCC (power), 14 DVCC (power), 15 VEE (power), 16 OUT2 (hiz), 17 VCC (power), 18 OUT1 (hiz), 19 VEE (power), 20 OUT0 (hiz), 21 VCC (power), 22 SEL ~{A}/B (in), 23 ~{OE} (in), 24 VCC (power)

## AD8186ARUZ
designator U?
480 MHz Single-Supply (5 V) Triple 2:1 Multiplexer, 24-pin SOP (RU-24), Tube; Manufacturer: Analog Devices; PartNumber: AD8186ARUZ; Bandwidth (Hz): 450 MHz; Max Analog Signal Range: +/-1.2V; t transition (s): 3.6n; DatasheetVersion: Rev. A; PackageVersion: Nov-02; PackageReference: RU-24; PackageDescription: 24-Pin Thin Shrink Small Outline Package, Body 7.8 x 4.4 mm, Pitch 0.65 mm; Supplier 1: Digi-Key; Supplier Part Number 1: AD8186ARUZ-ND; Supplier 2: Mouser; Supplier Part Number 2: 584-AD8186ARUZ; Packing: Tube; Mounting Technology: Surface Mount; Code_JEDEC: MO-153AD; ComponentLink1Description: Manufacturer URL; ComponentLink1URL: http://www.analog.com/en/index.html; ComponentLink2Description: Datasheet; ComponentLink2URL: http://www.analog.com/static/imported-files/data_sheets/AD8186_8187.pdf; ComponentLink3Description: Package Specification; ComponentLink3URL: http://www.analog.com/static/imported-files/packages/380523655245964505593671154107510036154RU24.pdf
footprint ADI-RU-24_N (SOP, 24-Leads, Body 7.8x4.4mm, Pitch 0.65mm, IPC Medium Density)
footprint ADI-RU-24_L (SOP, 24-Leads, Body 7.8x4.4mm, Pitch 0.65mm, IPC High Density)
footprint ADI-RU-24_M (SOP, 24-Leads, Body 7.8x4.4mm, Pitch 0.65mm, IPC Low Density)
pins: 1 IN0A (in), 2 DGND (power), 3 IN1A (in), 4 VREF (in), 5 IN2A (in), 6 VCC (power), 7 VEE (power), 8 IN2B (in), 9 VEE (power), 10 IN1B (in), 11 VEE (power), 12 IN0B (in), 13 VCC (power), 14 DVCC (power), 15 VEE (power), 16 OUT 2 (hiz), 17 VCC (power), 18 OUT 1 (hiz), 19 VEE (power), 20 OUT 0 (hiz), 21 VCC (power), 22 SEL A/~{B} (in), 23 OE (in), 24 VCC (power)

## AD8186ARUZ-R7
designator U?
480 MHz Single-Supply (5 V) Triple 2:1 Multiplexer, 24-pin SOP (RU-24), Reel; Manufacturer: Analog Devices; PartNumber: AD8186ARUZ-R7; Bandwidth (Hz): 450 MHz; Max Analog Signal Range: +/-1.2V; t transition (s): 3.6n; DatasheetVersion: Rev. A; PackageVersion: Nov-02; PackageReference: RU-24; PackageDescription: 24-Pin Thin Shrink Small Outline Package, Body 7.8 x 4.4 mm, Pitch 0.65 mm; Supplier 1: Digi-Key; Supplier Part Number 1: AD8186ARUZ-R7-ND; Supplier 2: Mouser; Supplier Part Number 2: 584-AD8186ARUZ-R7; Packing: Reel; Mounting Technology: Surface Mount; Code_JEDEC: MO-153AD; ComponentLink1Description: Manufacturer URL; ComponentLink1URL: http://www.analog.com/en/index.html; ComponentLink2Description: Datasheet; ComponentLink2URL: http://www.analog.com/static/imported-files/data_sheets/AD8186_8187.pdf; ComponentLink3Description: Package Specification; ComponentLink3URL: http://www.analog.com/static/imported-files/packages/380523655245964505593671154107510036154RU24.pdf
footprint ADI-RU-24_N (SOP, 24-Leads, Body 7.8x4.4mm, Pitch 0.65mm, IPC Medium Density)
footprint ADI-RU-24_L (SOP, 24-Leads, Body 7.8x4.4mm, Pitch 0.65mm, IPC High Density)
footprint ADI-RU-24_M (SOP, 24-Leads, Body 7.8x4.4mm, Pitch 0.65mm, IPC Low Density)
pins: 1 IN0A (in), 2 DGND (power), 3 IN1A (in), 4 VREF (in), 5 IN2A (in), 6 VCC (power), 7 VEE (power), 8 IN2B (in), 9 VEE (power), 10 IN1B (in), 11 VEE (power), 12 IN0B (in), 13 VCC (power), 14 DVCC (power), 15 VEE (power), 16 OUT 2 (hiz), 17 VCC (power), 18 OUT 1 (hiz), 19 VEE (power), 20 OUT 0 (hiz), 21 VCC (power), 22 SEL A/~{B} (in), 23 OE (in), 24 VCC (power)

## AD8186ARUZ-RL
designator U?
480 MHz Single-Supply (5 V) Triple 2:1 Multiplexer, 24-pin SOP (RU-24), Reel; Manufacturer: Analog Devices; PartNumber: AD8186ARUZ-RL; Bandwidth (Hz): 450 MHz; Max Analog Signal Range: +/-1.2V; t transition (s): 3.6n; DatasheetVersion: Rev. A; PackageVersion: Nov-02; PackageReference: RU-24; PackageDescription: 24-Pin Thin Shrink Small Outline Package, Body 7.8 x 4.4 mm, Pitch 0.65 mm; Supplier 1: Digi-Key; Supplier Part Number 1: AD8186ARUZ-RL-ND; Supplier 2: Mouser; Supplier Part Number 2: 584-AD8186ARUZ-R; Packing: Reel; Mounting Technology: Surface Mount; Code_JEDEC: MO-153AD; ComponentLink1Description: Manufacturer URL; ComponentLink1URL: http://www.analog.com/en/index.html; ComponentLink2Description: Datasheet; ComponentLink2URL: http://www.analog.com/static/imported-files/data_sheets/AD8186_8187.pdf; ComponentLink3Description: Package Specification; ComponentLink3URL: http://www.analog.com/static/imported-files/packages/380523655245964505593671154107510036154RU24.pdf
footprint ADI-RU-24_N (SOP, 24-Leads, Body 7.8x4.4mm, Pitch 0.65mm, IPC Medium Density)
footprint ADI-RU-24_L (SOP, 24-Leads, Body 7.8x4.4mm, Pitch 0.65mm, IPC High Density)
footprint ADI-RU-24_M (SOP, 24-Leads, Body 7.8x4.4mm, Pitch 0.65mm, IPC Low Density)
pins: 1 IN0A (in), 2 DGND (power), 3 IN1A (in), 4 VREF (in), 5 IN2A (in), 6 VCC (power), 7 VEE (power), 8 IN2B (in), 9 VEE (power), 10 IN1B (in), 11 VEE (power), 12 IN0B (in), 13 VCC (power), 14 DVCC (power), 15 VEE (power), 16 OUT 2 (hiz), 17 VCC (power), 18 OUT 1 (hiz), 19 VEE (power), 20 OUT 0 (hiz), 21 VCC (power), 22 SEL A/~{B} (in), 23 OE (in), 24 VCC (power)

## AD8187ARUZ
designator U?
480 MHz Single-Supply (5 V) Triple 2:1 Multiplexer, 24-pin SOP (RU-24), Tube; Manufacturer: Analog Devices; PartNumber: AD8187ARUZ; Bandwidth (Hz): 480 MHz; Max Analog Signal Range: +/-1.2V; t transition (s): 4n; DatasheetVersion: Rev. A; PackageVersion: Nov-02; PackageReference: RU-24; PackageDescription: 24-Pin Thin Shrink Small Outline Package, Body 7.8 x 4.4 mm, Pitch 0.65 mm; Supplier 1: Digi-Key; Supplier Part Number 1: AD8187ARUZ-ND; Supplier 2: Mouser; Supplier Part Number 2: 584-AD8187ARUZ; Packing: Tube; Mounting Technology: Surface Mount; Code_JEDEC: MO-153AD; ComponentLink1Description: Manufacturer URL; ComponentLink1URL: http://www.analog.com/en/index.html; ComponentLink2Description: Datasheet; ComponentLink2URL: http://www.analog.com/static/imported-files/data_sheets/AD8186_8187.pdf; ComponentLink3Description: Package Specification; ComponentLink3URL: http://www.analog.com/static/imported-files/packages/380523655245964505593671154107510036154RU24.pdf
footprint ADI-RU-24_N (SOP, 24-Leads, Body 7.8x4.4mm, Pitch 0.65mm, IPC Medium Density)
footprint ADI-RU-24_L (SOP, 24-Leads, Body 7.8x4.4mm, Pitch 0.65mm, IPC High Density)
footprint ADI-RU-24_M (SOP, 24-Leads, Body 7.8x4.4mm, Pitch 0.65mm, IPC Low Density)
pins: 1 IN0A (in), 2 DGND (power), 3 IN1A (in), 4 VREF (in), 5 IN2A (in), 6 VCC (power), 7 VEE (power), 8 IN2B (in), 9 VEE (power), 10 IN1B (in), 11 VEE (power), 12 IN0B (in), 13 VCC (power), 14 DVCC (power), 15 VEE (power), 16 OUT 2 (hiz), 17 VCC (power), 18 OUT 1 (hiz), 19 VEE (power), 20 OUT 0 (hiz), 21 VCC (power), 22 SEL A/~{B} (in), 23 OE (in), 24 VCC (power)

## AD8187ARUZ-REEL
designator U?
480 MHz Single-Supply (5 V) Triple 2:1 Multiplexer, 24-pin SOP (RU-24), Reel; Manufacturer: Analog Devices; PartNumber: AD8187ARUZ-REEL; Bandwidth (Hz): 480 MHz; Max Analog Signal Range: +/-1.2V; t transition (s): 4n; DatasheetVersion: Rev. A; PackageVersion: Nov-02; PackageReference: RU-24; PackageDescription: 24-Pin Thin Shrink Small Outline Package, Body 7.8 x 4.4 mm, Pitch 0.65 mm; Supplier 1: Digi-Key; Supplier Part Number 1: AD8187ARUZ-REEL-ND; Supplier 2: Mouser; Supplier Part Number 2: 584-AD8187ARUZ-R; Packing: Reel; Mounting Technology: Surface Mount; Code_JEDEC: MO-153AD; ComponentLink1Description: Manufacturer URL; ComponentLink1URL: http://www.analog.com/en/index.html; ComponentLink2Description: Datasheet; ComponentLink2URL: http://www.analog.com/static/imported-files/data_sheets/AD8186_8187.pdf; ComponentLink3Description: Package Specification; ComponentLink3URL: http://www.analog.com/static/imported-files/packages/380523655245964505593671154107510036154RU24.pdf
footprint ADI-RU-24_N (SOP, 24-Leads, Body 7.8x4.4mm, Pitch 0.65mm, IPC Medium Density)
footprint ADI-RU-24_L (SOP, 24-Leads, Body 7.8x4.4mm, Pitch 0.65mm, IPC High Density)
footprint ADI-RU-24_M (SOP, 24-Leads, Body 7.8x4.4mm, Pitch 0.65mm, IPC Low Density)
pins: 1 IN0A (in), 2 DGND (power), 3 IN1A (in), 4 VREF (in), 5 IN2A (in), 6 VCC (power), 7 VEE (power), 8 IN2B (in), 9 VEE (power), 10 IN1B (in), 11 VEE (power), 12 IN0B (in), 13 VCC (power), 14 DVCC (power), 15 VEE (power), 16 OUT 2 (hiz), 17 VCC (power), 18 OUT 1 (hiz), 19 VEE (power), 20 OUT 0 (hiz), 21 VCC (power), 22 SEL A/~{B} (in), 23 OE (in), 24 VCC (power)

## AD8187ARUZ-REEL7
designator U?
480 MHz Single-Supply (5 V) Triple 2:1 Multiplexer, 24-pin SOP (RU-24), Reel; Manufacturer: Analog Devices; PartNumber: AD8187ARUZ-REEL7; Bandwidth (Hz): 480 MHz; Max Analog Signal Range: +/-1.2V; t transition (s): 4n; DatasheetVersion: Rev. A; PackageVersion: Nov-02; PackageReference: RU-24; PackageDescription: 24-Pin Thin Shrink Small Outline Package, Body 7.8 x 4.4 mm, Pitch 0.65 mm; Supplier 1: Digi-Key; Supplier Part Number 1: AD8187ARUZ-REEL7-ND; Supplier 2: Mouser; Supplier Part Number 2: 584-AD8187ARUZ-R7; Packing: Reel; Mounting Technology: Surface Mount; Code_JEDEC: MO-153AD; ComponentLink1Description: Manufacturer URL; ComponentLink1URL: http://www.analog.com/en/index.html; ComponentLink2Description: Datasheet; ComponentLink2URL: http://www.analog.com/static/imported-files/data_sheets/AD8186_8187.pdf; ComponentLink3Description: Package Specification; ComponentLink3URL: http://www.analog.com/static/imported-files/packages/380523655245964505593671154107510036154RU24.pdf
footprint ADI-RU-24_N (SOP, 24-Leads, Body 7.8x4.4mm, Pitch 0.65mm, IPC Medium Density)
footprint ADI-RU-24_L (SOP, 24-Leads, Body 7.8x4.4mm, Pitch 0.65mm, IPC High Density)
footprint ADI-RU-24_M (SOP, 24-Leads, Body 7.8x4.4mm, Pitch 0.65mm, IPC Low Density)
pins: 1 IN0A (in), 2 DGND (power), 3 IN1A (in), 4 VREF (in), 5 IN2A (in), 6 VCC (power), 7 VEE (power), 8 IN2B (in), 9 VEE (power), 10 IN1B (in), 11 VEE (power), 12 IN0B (in), 13 VCC (power), 14 DVCC (power), 15 VEE (power), 16 OUT 2 (hiz), 17 VCC (power), 18 OUT 1 (hiz), 19 VEE (power), 20 OUT 0 (hiz), 21 VCC (power), 22 SEL A/~{B} (in), 23 OE (in), 24 VCC (power)

## AD8188ARUZ
designator U?
350 MHz Single-Supply (5 V) Triple 2:1 Multiplexer, 24-pin SOP (RU-24), Tube; Manufacturer: Analog Devices; PartNumber: AD8188ARUZ; Bandwidth (Hz): 350M; Max Analog Signal Range: 1.3V to 3.7V; t transition (s): 3.6n; DatasheetVersion: Rev. 0; PackageVersion: Nov-02; PackageReference: RU-24; PackageDescription: 24-Pin Thin Shrink Small Outline Package, Body 7.8 x 4.4 mm, Pitch 0.65 mm; Supplier 1: Digi-Key; Supplier Part Number 1: AD8188ARUZ-ND; Supplier 2: Mouser; Supplier Part Number 2: 584-AD8188ARUZ; Packing: Tube; Mounting Technology: Surface Mount; Code_JEDEC: MO-153AD; ComponentLink1Description: Manufacturer URL; ComponentLink1URL: http://www.analog.com/en/index.html; ComponentLink2Description: Datasheet; ComponentLink2URL: http://www.analog.com/static/imported-files/data_sheets/AD8188_8189.pdf; ComponentLink3Description: Package Specification; ComponentLink3URL: http://www.analog.com/static/imported-files/packages/380523655245964505593671154107510036154RU24.pdf
footprint ADI-RU-24_N (SOP, 24-Leads, Body 7.8x4.4mm, Pitch 0.65mm, IPC Medium Density)
footprint ADI-RU-24_L (SOP, 24-Leads, Body 7.8x4.4mm, Pitch 0.65mm, IPC High Density)
footprint ADI-RU-24_M (SOP, 24-Leads, Body 7.8x4.4mm, Pitch 0.65mm, IPC Low Density)
pins: 1 IN0A (in) "Input, High-ZIN. Routed to OUT0 when A is selected.", 2 DGND (power) "Ground Reference for Digital Control Circuitry.", 3 IN1A (in) "Input, High-ZIN. Routed to OUT1 when A is selected.", 4 VREF "Bypass point for internal reference. Does not affect dc level of output.", 5 IN2A (in) "Input, High-ZIN. Routed to OUT2 when A is selected.", 6 VCC (power) "Positive Analog Supply. Nominally 5 V higher than VEE.", 7 VEE (power) "Negative Analog Supply.", 8 IN2B (in) "Input, High-ZIN. Routed to OUT2 when B is selected.", 9 VEE (power) "Negative Analog Supply.", 10 IN1B (in) "Input, High-ZIN. Routed to OUT1 when B is selected.", 11 VEE (power) "Negative Analog Supply.", 12 IN0B (in) "Input, High-ZIN. Routed to OUT0 when B is selected.", 13 VCC (power) "Positive Analog Supply. Nominally 5 V higher than VEE.", 14 DVCC (power) "Positive Supply for Digital Control Circuitry. Referenced to DGND.", 15 VEE (power) "Negative Analog Supply.", 16 OUT2 (hiz) "Output. Can connect to IN2A, IN2B, or disable.", 17 VCC (power) "Positive Analog Supply. Nominally 5 V higher than VEE.", 18 OUT1 (hiz) "Output. Can connect to IN1A, IN1B, or disable.", 19 VEE (power) "Negative Analog Supply.", 20 OUT0 (hiz) "Output. Can connect to IN0A, IN0B, or disable.", 21 VCC (power) "Positive Analog Supply. Nominally 5 V higher than VEE.", 22 SEL A/~{B} (in) "Logic high selects the three A inputs. Logic low selects the three B inputs.", 23 OE (in) "Output Enable. Logic high enables the three outputs.", 24 VCC (power) "Positive Analog Supply. Nominally 5 V higher than VEE."

## AD8188ARUZ-R7
designator U?
350 MHz Single-Supply (5 V) Triple 2:1 Multiplexer, 24-pin SOP (RU-24), Reel; Manufacturer: Analog Devices; PartNumber: AD8188ARUZ-R7; Bandwidth (Hz): 350M; Max Analog Signal Range: 1.3V to 3.7V; t transition (s): 3.6n; DatasheetVersion: Rev. 0; PackageVersion: Nov-02; PackageReference: RU-24; PackageDescription: 24-Pin Thin Shrink Small Outline Package, Body 7.8 x 4.4 mm, Pitch 0.65 mm; Supplier 1: Digi-Key; Supplier Part Number 1: AD8188ARUZ-R7-ND; Supplier 2: Mouser; Supplier Part Number 2: 584-AD8188ARUZ-R7; Packing: Reel; Mounting Technology: Surface Mount; Code_JEDEC: MO-153AD; ComponentLink1Description: Manufacturer URL; ComponentLink1URL: http://www.analog.com/en/index.html; ComponentLink2Description: Datasheet; ComponentLink2URL: http://www.analog.com/static/imported-files/data_sheets/AD8188_8189.pdf; ComponentLink3Description: Package Specification; ComponentLink3URL: http://www.analog.com/static/imported-files/packages/380523655245964505593671154107510036154RU24.pdf
footprint ADI-RU-24_N (SOP, 24-Leads, Body 7.8x4.4mm, Pitch 0.65mm, IPC Medium Density)
footprint ADI-RU-24_L (SOP, 24-Leads, Body 7.8x4.4mm, Pitch 0.65mm, IPC High Density)
footprint ADI-RU-24_M (SOP, 24-Leads, Body 7.8x4.4mm, Pitch 0.65mm, IPC Low Density)
pins: 1 IN0A (in) "Input, High-ZIN. Routed to OUT0 when A is selected.", 2 DGND (power) "Ground Reference for Digital Control Circuitry.", 3 IN1A (in) "Input, High-ZIN. Routed to OUT1 when A is selected.", 4 VREF "Bypass point for internal reference. Does not affect dc level of output.", 5 IN2A (in) "Input, High-ZIN. Routed to OUT2 when A is selected.", 6 VCC (power) "Positive Analog Supply. Nominally 5 V higher than VEE.", 7 VEE (power) "Negative Analog Supply.", 8 IN2B (in) "Input, High-ZIN. Routed to OUT2 when B is selected.", 9 VEE (power) "Negative Analog Supply.", 10 IN1B (in) "Input, High-ZIN. Routed to OUT1 when B is selected.", 11 VEE (power) "Negative Analog Supply.", 12 IN0B (in) "Input, High-ZIN. Routed to OUT0 when B is selected.", 13 VCC (power) "Positive Analog Supply. Nominally 5 V higher than VEE.", 14 DVCC (power) "Positive Supply for Digital Control Circuitry. Referenced to DGND.", 15 VEE (power) "Negative Analog Supply.", 16 OUT2 (hiz) "Output. Can connect to IN2A, IN2B, or disable.", 17 VCC (power) "Positive Analog Supply. Nominally 5 V higher than VEE.", 18 OUT1 (hiz) "Output. Can connect to IN1A, IN1B, or disable.", 19 VEE (power) "Negative Analog Supply.", 20 OUT0 (hiz) "Output. Can connect to IN0A, IN0B, or disable.", 21 VCC (power) "Positive Analog Supply. Nominally 5 V higher than VEE.", 22 SEL A/~{B} (in) "Logic high selects the three A inputs. Logic low selects the three B inputs.", 23 OE (in) "Output Enable. Logic high enables the three outputs.", 24 VCC (power) "Positive Analog Supply. Nominally 5 V higher than VEE."

## AD8188ARUZ-RL
designator U?
350 MHz Single-Supply (5 V) Triple 2:1 Multiplexer, 24-pin SOP (RU-24), Reel; Manufacturer: Analog Devices; PartNumber: AD8188ARUZ-RL; Bandwidth (Hz): 350M; Max Analog Signal Range: 1.3V to 3.7V; t transition (s): 3.6n; DatasheetVersion: Rev. 0; PackageVersion: Nov-02; PackageReference: RU-24; PackageDescription: 24-Pin Thin Shrink Small Outline Package, Body 7.8 x 4.4 mm, Pitch 0.65 mm; Supplier 1: Digi-Key; Supplier Part Number 1: AD8188ARUZ-RL-ND; Supplier 2: Mouser; Supplier Part Number 2: 584-AD8188ARUZ-R; Packing: Reel; Mounting Technology: Surface Mount; Code_JEDEC: MO-153AD; ComponentLink1Description: Manufacturer URL; ComponentLink1URL: http://www.analog.com/en/index.html; ComponentLink2Description: Datasheet; ComponentLink2URL: http://www.analog.com/static/imported-files/data_sheets/AD8188_8189.pdf; ComponentLink3Description: Package Specification; ComponentLink3URL: http://www.analog.com/static/imported-files/packages/380523655245964505593671154107510036154RU24.pdf
footprint ADI-RU-24_N (SOP, 24-Leads, Body 7.8x4.4mm, Pitch 0.65mm, IPC Medium Density)
footprint ADI-RU-24_L (SOP, 24-Leads, Body 7.8x4.4mm, Pitch 0.65mm, IPC High Density)
footprint ADI-RU-24_M (SOP, 24-Leads, Body 7.8x4.4mm, Pitch 0.65mm, IPC Low Density)
pins: 1 IN0A (in) "Input, High-ZIN. Routed to OUT0 when A is selected.", 2 DGND (power) "Ground Reference for Digital Control Circuitry.", 3 IN1A (in) "Input, High-ZIN. Routed to OUT1 when A is selected.", 4 VREF "Bypass point for internal reference. Does not affect dc level of output.", 5 IN2A (in) "Input, High-ZIN. Routed to OUT2 when A is selected.", 6 VCC (power) "Positive Analog Supply. Nominally 5 V higher than VEE.", 7 VEE (power) "Negative Analog Supply.", 8 IN2B (in) "Input, High-ZIN. Routed to OUT2 when B is selected.", 9 VEE (power) "Negative Analog Supply.", 10 IN1B (in) "Input, High-ZIN. Routed to OUT1 when B is selected.", 11 VEE (power) "Negative Analog Supply.", 12 IN0B (in) "Input, High-ZIN. Routed to OUT0 when B is selected.", 13 VCC (power) "Positive Analog Supply. Nominally 5 V higher than VEE.", 14 DVCC (power) "Positive Supply for Digital Control Circuitry. Referenced to DGND.", 15 VEE (power) "Negative Analog Supply.", 16 OUT2 (hiz) "Output. Can connect to IN2A, IN2B, or disable.", 17 VCC (power) "Positive Analog Supply. Nominally 5 V higher than VEE.", 18 OUT1 (hiz) "Output. Can connect to IN1A, IN1B, or disable.", 19 VEE (power) "Negative Analog Supply.", 20 OUT0 (hiz) "Output. Can connect to IN0A, IN0B, or disable.", 21 VCC (power) "Positive Analog Supply. Nominally 5 V higher than VEE.", 22 SEL A/~{B} (in) "Logic high selects the three A inputs. Logic low selects the three B inputs.", 23 OE (in) "Output Enable. Logic high enables the three outputs.", 24 VCC (power) "Positive Analog Supply. Nominally 5 V higher than VEE."

## AD8189ARUZ
designator U?
350 MHz Single-Supply (5 V) Triple 2:1 Multiplexer, 24-pin SOP (RU-24), Tube; Manufacturer: Analog Devices; PartNumber: AD8189ARUZ; Bandwidth (Hz): 350M; Max Analog Signal Range: 1.3V to 3.7V; t transition (s): 4n; DatasheetVersion: Rev. 0; PackageVersion: Nov-02; PackageReference: RU-24; PackageDescription: 24-Pin Thin Shrink Small Outline Package, Body 7.8 x 4.4 mm, Pitch 0.65 mm; Supplier 1: Digi-Key; Supplier Part Number 1: AD8189ARUZ-ND; Supplier 2: Mouser; Supplier Part Number 2: 584-AD8189ARUZ; Packing: Tube; Mounting Technology: Surface Mount; Code_JEDEC: MO-153AD; ComponentLink1Description: Manufacturer URL; ComponentLink1URL: http://www.analog.com/en/index.html; ComponentLink2Description: Datasheet; ComponentLink2URL: http://www.analog.com/static/imported-files/data_sheets/AD8188_8189.pdf; ComponentLink3Description: Package Specification; ComponentLink3URL: http://www.analog.com/static/imported-files/packages/380523655245964505593671154107510036154RU24.pdf
footprint ADI-RU-24_N (SOP, 24-Leads, Body 7.8x4.4mm, Pitch 0.65mm, IPC Medium Density)
footprint ADI-RU-24_L (SOP, 24-Leads, Body 7.8x4.4mm, Pitch 0.65mm, IPC High Density)
footprint ADI-RU-24_M (SOP, 24-Leads, Body 7.8x4.4mm, Pitch 0.65mm, IPC Low Density)
pins: 1 IN0A (in) "Input, High-ZIN. Routed to OUT0 when A is selected.", 2 DGND (power) "Ground Reference for Digital Control Circuitry.", 3 IN1A (in) "Input, High-ZIN. Routed to OUT1 when A is selected.", 4 VREF (in) "Input to reference buffers for all channels. Can be used to offset the outputs.", 5 IN2A (in) "Input, High-ZIN. Routed to OUT2 when A is selected.", 6 VCC (power) "Positive Analog Supply. Nominally 5 V higher than VEE.", 7 VEE (power) "Negative Analog Supply.", 8 IN2B (in) "Input, High-ZIN. Routed to OUT2 when B is selected.", 9 VEE (power) "Negative Analog Supply.", 10 IN1B (in) "Input, High-ZIN. Routed to OUT1 when B is selected.", 11 VEE (power) "Negative Analog Supply.", 12 IN0B (in) "Input, High-ZIN. Routed to OUT0 when B is selected.", 13 VCC (power) "Positive Analog Supply. Nominally 5 V higher than VEE.", 14 DVCC (power) "Positive Supply for Digital Control Circuitry. Referenced to DGND.", 15 VEE (power) "Negative Analog Supply.", 16 OUT2 (hiz) "Output. Can connect to IN2A, IN2B, or disable.", 17 VCC (power) "Positive Analog Supply. Nominally 5 V higher than VEE.", 18 OUT1 (hiz) "Output. Can connect to IN1A, IN1B, or disable.", 19 VEE (power) "Negative Analog Supply.", 20 OUT0 (hiz) "Output. Can connect to IN0A, IN0B, or disable.", 21 VCC (power) "Positive Analog Supply. Nominally 5 V higher than VEE.", 22 SEL A/~{B} (in) "Logic high selects the three A inputs. Logic low selects the three B inputs.", 23 OE (in) "Output Enable. Logic high enables the three outputs.", 24 VCC (power) "Positive Analog Supply. Nominally 5 V higher than VEE."

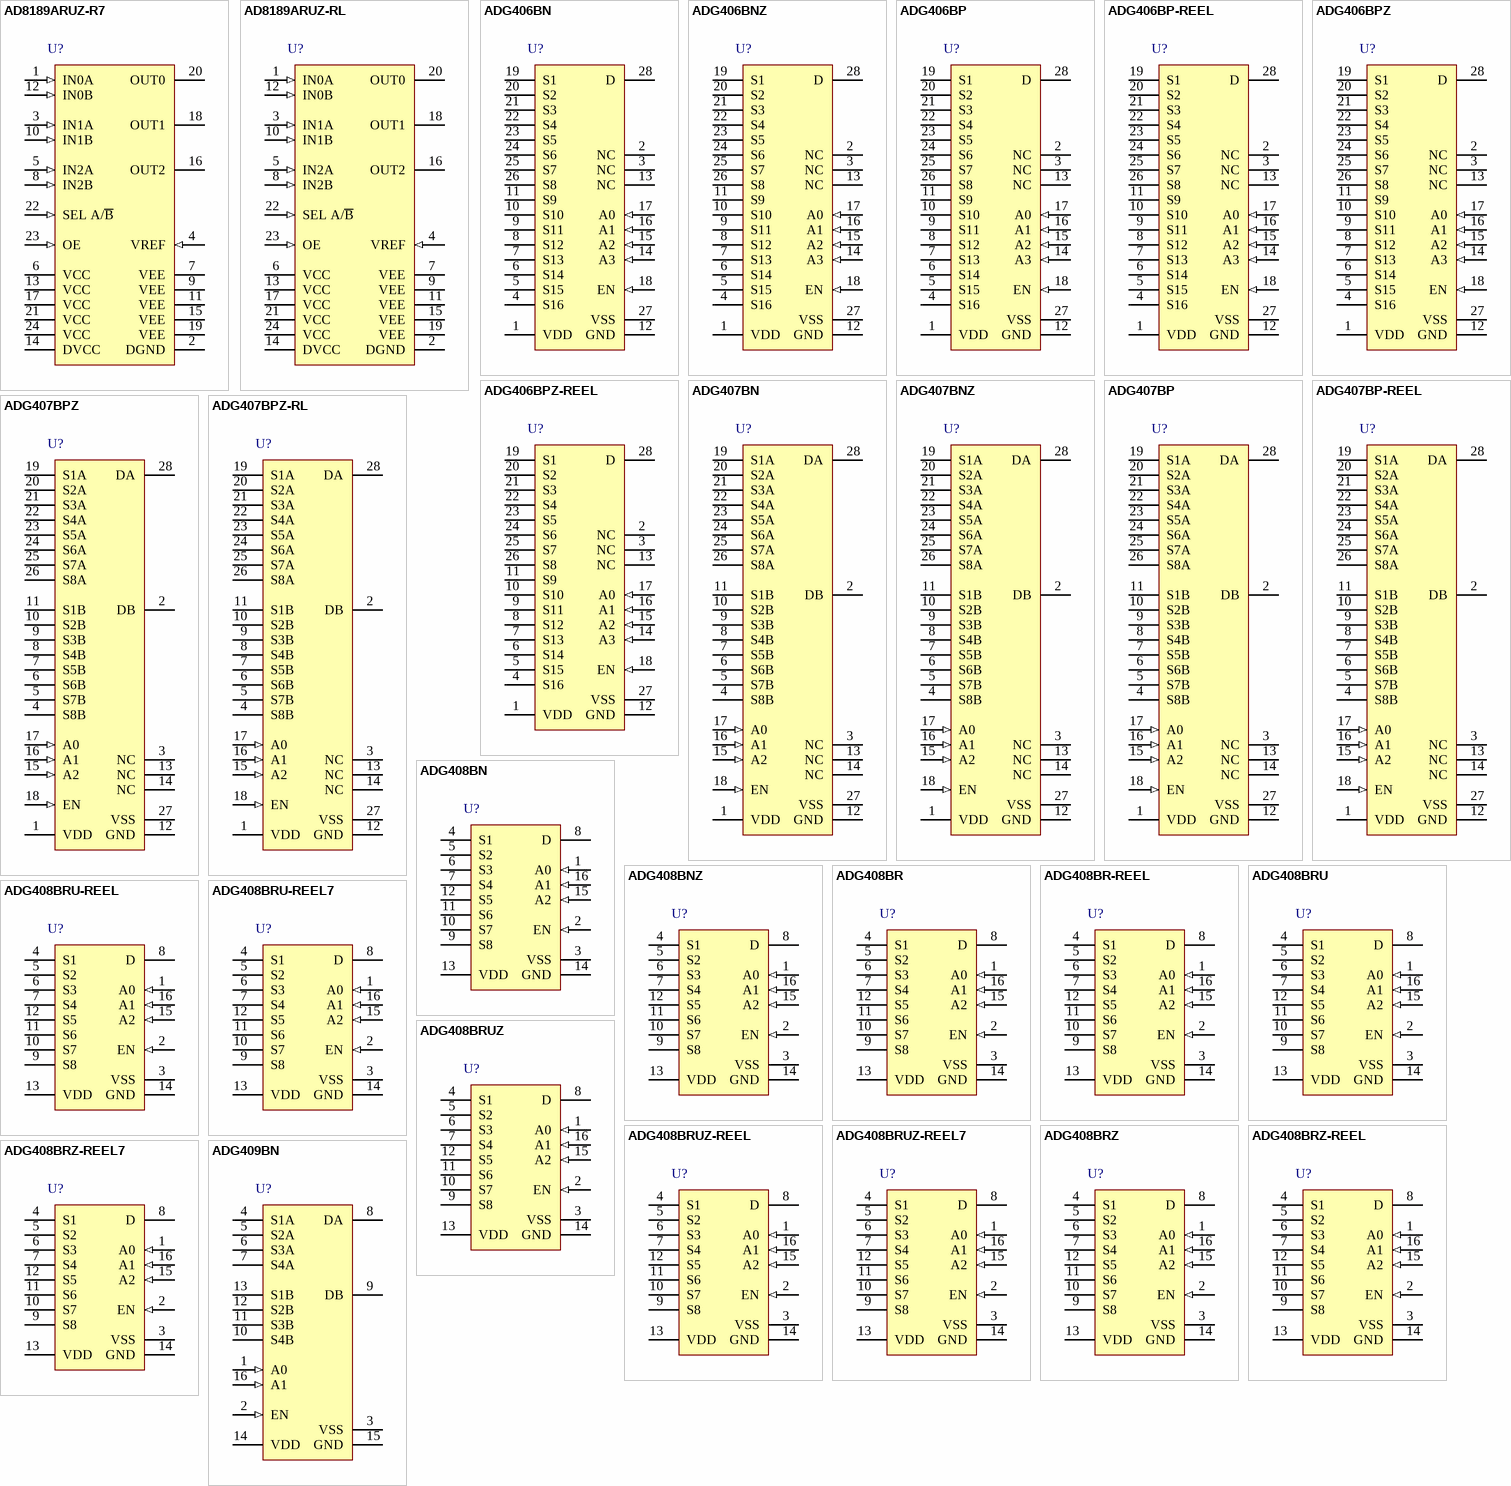
[diagram p2: symbols AD8189ARUZ-R7 to ADG409BN]